# EAGLE library part XC2C32A-CP56 (library archived)
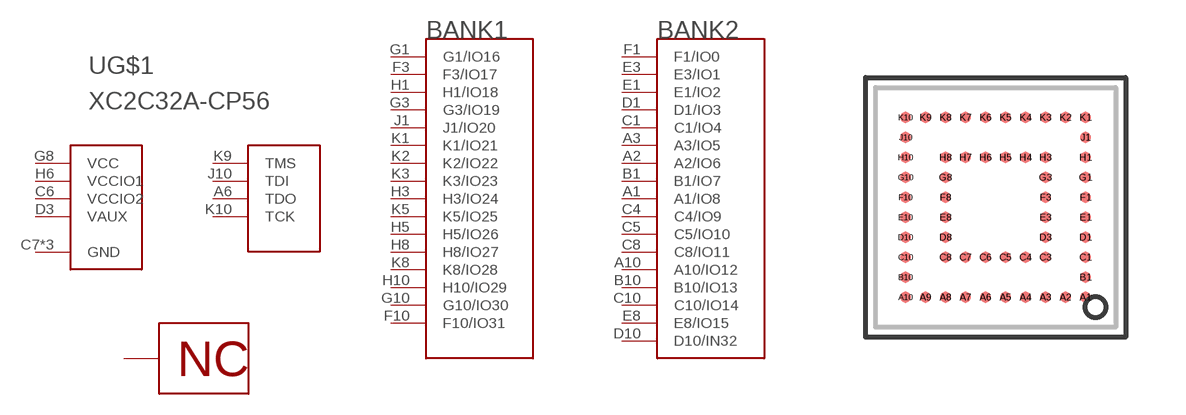
[diagram p14: symbol with the pads of XILINX_CP56; footprint XILINX_CP56]

Designator prefix -; gates G$1=XC2C32A-CP56 G$2=_NC

## XC2C32A-CP56  [XILINX_CP56]
A1  G$1:A1/IO8
A2  G$1:A2/IO6
A3  G$1:A3/IO5
A4  G$2:NC
A5  G$2:NC
A6  G$1:TDO
A7  G$2:NC
A8  G$2:NC
A9  G$2:NC
A10  G$1:A10/IO12
B1  G$1:B1/IO7
B10  G$1:B10/IO13
C1  G$1:C1/IO4
C3  G$2:NC
C4  G$1:C4/IO9
C5  G$1:C5/IO10
C6  G$1:VCCIO2
C7  G$1:GND
C8  G$1:C8/IO11
C10  G$1:C10/IO14
D1  G$1:D1/IO3
D3  G$1:VAUX
D8  G$2:NC
D10  G$1:D10/IN32
E1  G$1:E1/IO2
E3  G$1:E3/IO1
E8  G$1:E8/IO15
E10  G$2:NC
F1  G$1:F1/IO0
F3  G$1:F3/IO17
F8  G$1:GND
F10  G$1:F10/IO31
G1  G$1:G1/IO16
G3  G$1:G3/IO19
G8  G$1:VCC
G10  G$1:G10/IO30
H1  G$1:H1/IO18
H3  G$1:H3/IO24
H4  G$1:GND
H5  G$1:H5/IO26
H6  G$1:VCCIO1
H7  G$2:NC
H8  G$1:H8/IO27
H10  G$1:H10/IO29
J1  G$1:J1/IO20
J10  G$1:TDI
K1  G$1:K1/IO21
K2  G$1:K2/IO22
K3  G$1:K3/IO23
K4  G$2:NC
K5  G$1:K5/IO25
K6  G$2:NC
K7  G$2:NC
K8  G$1:K8/IO28
K9  G$1:TMS
K10  G$1:TCK

## Footprint XILINX_CP56 (pad centres in mm)
Xilinx 0.5mm-pitch 56-pin BGA http://www.xilinx.com/support/documentation/user_guides/ug112.pdf, page 88
smd 0.27 x 0.27: A1 2.25,-2.25; A2 1.75,-2.25; A3 1.25,-2.25; A4 0.75,-2.25; A5 0.25,-2.25; A6 -0.25,-2.25; A7 -0.75,-2.25; A8 -1.25,-2.25; A9 -1.75,-2.25; A10 -2.25,-2.25; B1 2.25,-1.75; B10 -2.25,-1.75; C1 2.25,-1.25; C3 1.25,-1.25; C4 0.75,-1.25; C5 0.25,-1.25; C6 -0.25,-1.25; C7 -0.75,-1.25; C8 -1.25,-1.25; C10 -2.25,-1.25; D1 2.25,-0.75; D3 1.25,-0.75; D8 -1.25,-0.75; D10 -2.25,-0.75; E1 2.25,-0.25; E3 1.25,-0.25; E8 -1.25,-0.25; E10 -2.25,-0.25; F1 2.25,0.25; F3 1.25,0.25; F8 -1.25,0.25; F10 -2.25,0.25; G1 2.25,0.75; G3 1.25,0.75; G8 -1.25,0.75; G10 -2.25,0.75; H1 2.25,1.25; H3 1.25,1.25; H4 0.75,1.25; H5 0.25,1.25; H6 -0.25,1.25; H7 -0.75,1.25; H8 -1.25,1.25; H10 -2.25,1.25; J1 2.25,1.75; J10 -2.25,1.75; K1 2.25,2.25; K2 1.75,2.25; K3 1.25,2.25; K4 0.75,2.25; K5 0.25,2.25; K6 -0.25,2.25; K7 -0.75,2.25; K8 -1.25,2.25; K9 -1.75,2.25; K10 -2.25,2.25